# Altium footprint library EEG_PcbLib.PcbLib: 129 footprints (part 6 of 9)
Each footprint in its own frame and in the unit in brackets; x right, y up, seen from the top. Pads: shape width x height; smd on the part's side, far side on the other; paste and mask are expansions set on the pad; w line width, h text height; cw(c..) or ccw(c..) is an arc to the next point about the centre after c.
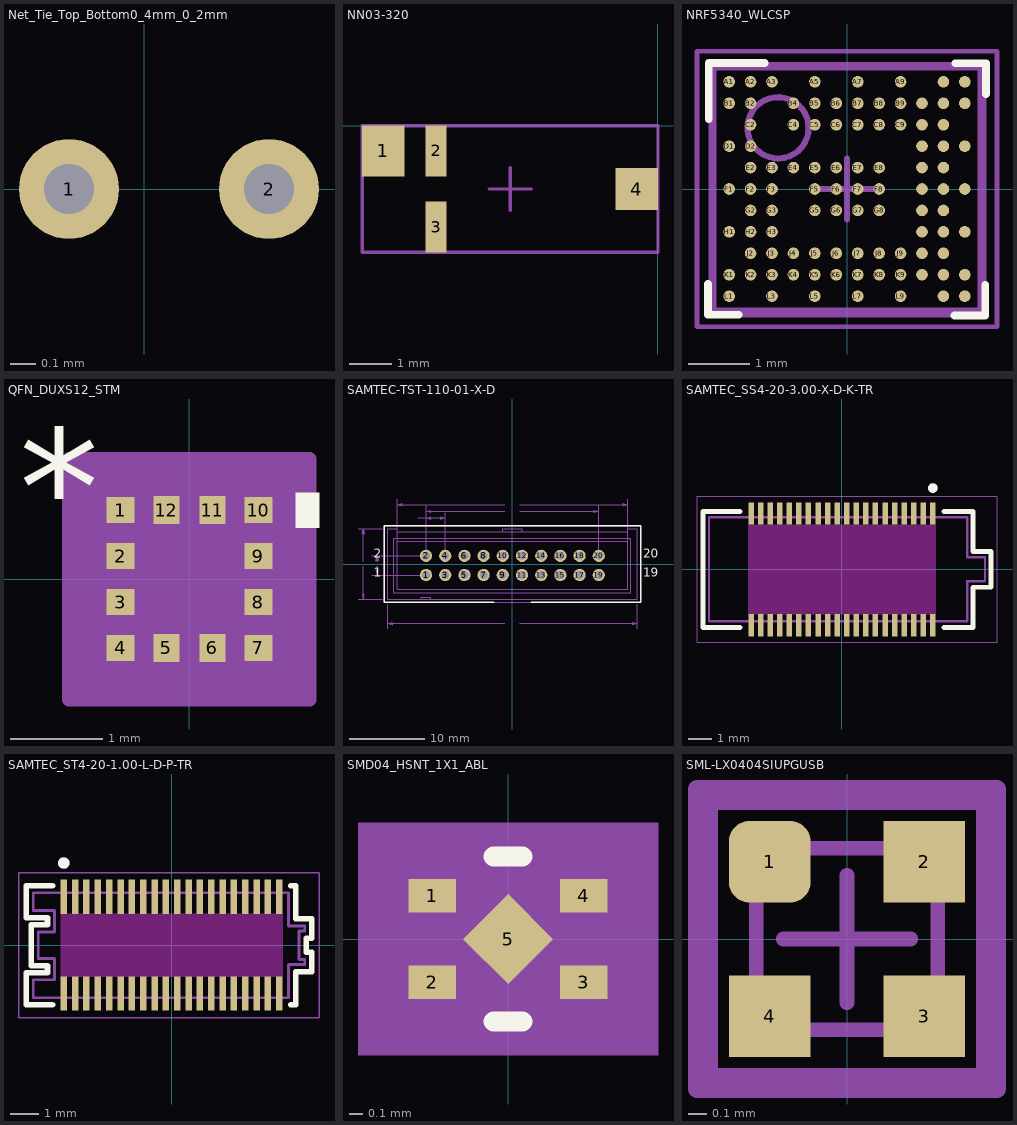
[diagram p5: the footprints below, top view; thin cyan lines are the x and y axes]

## Net_Tie_Top_Bottom0_4mm_0_2mm [mm]
pads (2):
  round 0.4 hole 0.2 mask+0.102: 1(-0.3,0) 2(0.5,0)
Multi-Layer:
  rectangle: -0.2,-0.1 0.35,0.1

## NN03-320 [mm]
pads (4):
  rect 1x1.2 smd: 1(-6.5,-0.6)
  rect 0.5x1.2 smd: 2(-5.25,-0.6) 3(-5.25,-2.4)
  rect 1x1 smd: 4(-0.5,-1.5)
Top Assembly:
  lines w0.08: -7,-3 0,-3 0,0 -7,0 -7,-3
Top Courtyard:
  lines w0.08: -7,-3 0,-3 0,0 -7,0 -7,-3
Top Component Outline:
  lines w0.08: -7,-3 0,-3 0,0 -7,0 -7,-3
Top Component Center:
  lines w0.08: -4,-1.5 -3,-1.5 ; -3.5,-2 -3.5,-1
3D body "NN03-320_alligned.STEP": height 2.01, standoff -0.01, extent -7,-3 0,0

## NRF5340_WLCSP [mm]
pads (95):
  round 0.19 smd paste+0 mask+0: A1(-1.925,1.75) A2(-1.575,1.75) A3(-1.225,1.75) A5(-0.525,1.75) A7(0.175,1.75) A9(0.875,1.75) A11(1.575,1.75) A12(1.925,1.75) B1(-1.925,1.4) B2(-1.575,1.4) B4(-0.875,1.4) B5(-0.525,1.4) B6(-0.175,1.4) B7(0.175,1.4) B8(0.525,1.4) B9(0.875,1.4) B10(1.225,1.4) B11(1.575,1.4) B12(1.925,1.4) C2(-1.575,1.05) C4(-0.875,1.05) C5(-0.525,1.05) C6(-0.175,1.05) C7(0.175,1.05) C8(0.525,1.05) C9(0.875,1.05) C10(1.225,1.05) C11(1.575,1.05) D1(-1.925,0.7) D2(-1.575,0.7) D10(1.225,0.7) D11(1.575,0.7) D12(1.925,0.7) E2(-1.575,0.35) E3(-1.225,0.35) E4(-0.875,0.35) E5(-0.525,0.35) E6(-0.175,0.35) E7(0.175,0.35) E8(0.525,0.35) E10(1.225,0.35) E11(1.575,0.35) F1(-1.925,0) F2(-1.575,0) F3(-1.225,0) F5(-0.525,0) F6(-0.175,0) F7(0.175,0) F8(0.525,0) F10(1.225,0) F11(1.575,0) F12(1.925,0) G2(-1.575,-0.35) G3(-1.225,-0.35) G5(-0.525,-0.35) G6(-0.175,-0.35) G7(0.175,-0.35) G8(0.525,-0.35) G10(1.225,-0.35) G11(1.575,-0.35) H1(-1.925,-0.7) H2(-1.575,-0.7) H3(-1.225,-0.7) H10(1.225,-0.7) H11(1.575,-0.7) H12(1.925,-0.7) J2(-1.575,-1.05) J3(-1.225,-1.05) J4(-0.875,-1.05) J5(-0.525,-1.05) J6(-0.175,-1.05) J7(0.175,-1.05) J8(0.525,-1.05) J9(0.875,-1.05) J10(1.225,-1.05) J11(1.575,-1.05) K1(-1.925,-1.4) K2(-1.575,-1.4) K3(-1.225,-1.4) K4(-0.875,-1.4) K5(-0.525,-1.4) K6(-0.175,-1.4) K7(0.175,-1.4) K8(0.525,-1.4) K9(0.875,-1.4) K10(1.225,-1.4) K11(1.575,-1.4) K12(1.925,-1.4) L1(-1.925,-1.75) L3(-1.225,-1.75) L5(-0.525,-1.75) L7(0.175,-1.75) L9(0.875,-1.75) L11(1.575,-1.75) L12(1.925,-1.75)
Top Overlay:
  lines w0.125: -2.261,1.143 -2.261,2.057 -1.346,2.057
  lines w0.127: -2.269,-1.554 -2.269,-2.054 -1.769,-2.054 ; 1.757,-2.066 2.257,-2.066 2.257,-1.566 ; 1.769,2.054 2.269,2.054 2.269,1.554
Top Assembly:
  circle w0.1: c-1.126,0.999 r0.5
  lines w0.08: -2.226,-2.057 -2.226,2.032 2.235,2.032 2.235,-2.057 -2.226,-2.057
Top Courtyard:
  lines w0.08: -2.45,-2.25 2.45,-2.25 2.45,2.25 -2.45,2.25 -2.45,-2.25
Top Component Outline:
  lines w0.1: -2.185,-1.985 -2.185,1.985 2.185,1.985 2.185,-1.985 -2.185,-1.985
Top Component Center:
  lines w0.1: -0.5,0 0.5,0 ; 0,-0.5 0,0.5
3D body "BGA132C35P12X11_437X397X50.step": height 0.5, standoff 0, extent -2.185,-1.985 2.185,1.985

## PCBComponent_1 [mm]

## PCBComponent_1 - duplicate [mm]

## PCBComponent_1 - duplicate1 [mm]

## PCBComponent_1 - duplicate2 [mm]

## PCBComponent_1 - duplicate3 [mm]

## PCBComponent_1 - duplicate4 [mm]

## QFN_DUXS12_STM [mil]
pads (12):
  rect 12x11 smd paste+0 mask+0: 1(-29.5,29.54) 2(-29.5,9.85) 3(-29.5,-9.85) 4(-29.5,-29.54) 7(29.5,-29.54) 8(29.5,-9.85) 9(29.5,9.85) 10(29.5,29.54)
  rect 11x12 smd paste+0 mask+0: 5(-9.85,-29.5) 6(9.85,-29.5) 11(9.85,29.5) 12(-9.85,29.5)
Top Overlay:
  region: 45.5,37.03 55.5,37.03 55.5,22.04 45.5,22.04
  text "*" at -73,14.38 h50
Mechanical 13:
  lines w1: -41.5,-8.5 8.5,41.5 ; -41.5,-41.5 41.5,-41.5 41.5,41.5 -41.5,41.5 -41.5,-41.5 ; -41.5,-35.03 -41.5,-24.04 -35.5,-24.04 -35.5,-35.03 -41.5,-35.03 ; -41.5,-15.35 -41.5,-4.34 -35.5,-4.34 -35.5,-15.35 -41.5,-15.35 ; -41.5,4.34 -41.5,15.35 -35.5,15.35 -35.5,4.34 -41.5,4.34 ; -41.5,24.04 -41.5,35.03 -35.5,35.03 -35.5,24.04 -41.5,24.04 ; -15.35,-41.5 -4.34,-41.5 -4.34,-35.5 -15.35,-35.5 -15.35,-41.5 ; -15.35,35.5 -4.34,35.5 -4.34,41.5 -15.35,41.5 -15.35,35.5 ; 4.34,-41.5 15.35,-41.5 15.35,-35.5 4.34,-35.5 4.34,-41.5 ; 4.34,35.5 15.35,35.5 15.35,41.5 4.34,41.5 4.34,35.5 ; 35.5,-35.03 41.5,-35.03 41.5,-24.04 35.5,-24.04 35.5,-35.03 ; 35.5,-15.35 41.5,-15.35 41.5,-4.34 35.5,-4.34 35.5,-15.35 ; 35.5,4.34 41.5,4.34 41.5,15.35 35.5,15.35 35.5,4.34 ; 35.5,24.04 41.5,24.04 41.5,35.03 35.5,35.03 35.5,24.04
  text "*" at -36,14.38 h50
Mechanical 15:
  region: -25.34,-51.5 -51.5,-51.5 -51.5,-45.03 -51.5,45.03 -51.5,51.5 -25.34,51.5 25.34,51.5 51.5,51.5 51.5,45.03 51.5,-45.03 51.5,-51.5 25.34,-51.5
  lines w6: -51.5,-51.5 -51.5,-45.03 -51.5,45.03 -51.5,51.5 -25.34,51.5 25.34,51.5 51.5,51.5 51.5,45.03 51.5,-45.03 51.5,-51.5 25.34,-51.5 -25.34,-51.5 -51.5,-51.5
3D body "QFN_DUXS12_STM.step": height 29.09, standoff 0, extent -41.5,-41.5 41.5,41.5

## SAMTEC-TST-110-01-X-D [mm]
pads (20):
  round 1.62 / inner round 1.524 / far side round 1.62 hole 1.02: 1(-11.43,-1.46) 2(-11.43,1.08) 3(-8.89,-1.46) 4(-8.89,1.08) 5(-6.35,-1.46) 6(-6.35,1.08) 7(-3.81,-1.46) 8(-3.81,1.08) 9(-1.27,-1.46) 10(-1.27,1.08) 11(1.27,-1.46) 12(1.27,1.08) 13(3.81,-1.46) 14(3.81,1.08) 15(6.35,-1.46) 16(6.35,1.08) 17(8.89,-1.46) 18(8.89,1.08) 19(11.43,-1.46) 20(11.43,1.08)
Top Overlay:
  lines w0.2: -2.5,-5.086 -16.96,-5.086 -16.96,5.086 16.96,5.086 16.96,-5.086 2.5,-5.086
  text "2" at -18.33,0.444 h1.97
  text "20" at 17.301,0.444 h1.97
  text "1" at -18.33,-2.096 h1.97
  text "19" at 17.301,-2.096 h1.97
Top Solder:
  circle w0: c11.43,1.08 r0.861
  circle w0: c11.43,-1.46 r0.861
  circle w0: c8.89,1.08 r0.861
  circle w0: c8.89,-1.46 r0.861
  circle w0: c6.35,1.08 r0.861
  circle w0: c6.35,-1.46 r0.861
  circle w0: c3.81,1.08 r0.861
  circle w0: c3.81,-1.46 r0.861
  circle w0: c1.27,1.08 r0.861
  circle w0: c1.27,-1.46 r0.861
  circle w0: c-1.27,1.08 r0.861
  circle w0: c-1.27,-1.46 r0.861
  circle w0: c-3.81,1.08 r0.861
  circle w0: c-3.81,-1.46 r0.861
  circle w0: c-6.35,1.08 r0.861
  circle w0: c-6.35,-1.46 r0.861
  circle w0: c-8.89,1.08 r0.861
  circle w0: c-8.89,-1.46 r0.861
  circle w0: c-11.43,1.08 r0.861
  circle w0: c-11.43,-1.46 r0.861
Bottom Solder:
  circle w0: c11.43,1.08 r0.861
  circle w0: c11.43,-1.46 r0.861
  circle w0: c8.89,1.08 r0.861
  circle w0: c8.89,-1.46 r0.861
  circle w0: c6.35,1.08 r0.861
  circle w0: c6.35,-1.46 r0.861
  circle w0: c3.81,1.08 r0.861
  circle w0: c3.81,-1.46 r0.861
  circle w0: c1.27,1.08 r0.861
  circle w0: c1.27,-1.46 r0.861
  circle w0: c-1.27,1.08 r0.861
  circle w0: c-1.27,-1.46 r0.861
  circle w0: c-3.81,1.08 r0.861
  circle w0: c-3.81,-1.46 r0.861
  circle w0: c-6.35,1.08 r0.861
  circle w0: c-6.35,-1.46 r0.861
  circle w0: c-8.89,1.08 r0.861
  circle w0: c-8.89,-1.46 r0.861
  circle w0: c-11.43,1.08 r0.861
  circle w0: c-11.43,-1.46 r0.861
Mechanical 3:
  drawing of 162 lines, arcs and shapes, not listed
  text "20" at 17.301,0.444 h1.97
  text "19" at 17.301,-2.096 h1.97
  text "2" at -18.33,0.444 h1.97
  text "1" at -18.33,-2.096 h1.97
Mechanical 30:
  lines w0: -20.437,-4.636 -17.211,-4.636 ; -20.437,4.636 -17.211,4.636 ; -19.736,-0.318 -19.736,-4.636 ; -19.736,0.318 -19.736,4.636 ; -18.608,-1.46 -12.131,-1.46 ; -18.608,1.08 -12.131,1.08 ; -17.907,-0.318 -17.907,-1.46 ; -17.907,0.318 -17.907,1.08 ; -16.51,-8.562 -16.51,-5.337 ; -15.24,0.701 -15.24,8.562 ; -12.548,6.096 -11.43,6.096 ; -11.43,6.797 -11.43,1.781 -11.43,7.686 ; -8.89,1.781 -8.89,6.797 ; -0.991,-7.861 -16.51,-7.861 ; -0.991,6.985 -11.43,6.985 ; -0.991,7.861 -15.24,7.861 ; 0.991,-7.861 16.51,-7.861 ; 0.991,6.985 11.43,6.985 ; 0.991,7.861 15.24,7.861 ; 11.43,1.781 11.43,7.686 ; 15.24,0.701 15.24,8.562 ; 16.51,-8.562 16.51,-5.337 ; -19.895,-4 -19.815,-4.064 -19.736,-4.636 ; -19.895,-4 -19.736,-4.128 ; -19.895,-4 -19.736,-4.636 ; -19.736,-4.636 -19.736,-4.128 ; -19.736,-4.636 -19.656,-4.064 -19.736,-4.128 ; -19.736,-4.636 -19.577,-4 -19.736,-4.128 ; -19.736,4.128 -19.736,4.636 ; -19.736,4.128 -19.815,4.064 -19.736,4.636 ; -19.736,4.128 -19.577,4 ; -19.736,4.128 -19.895,4 -19.736,4.636 ; -19.736,4.636 -19.656,4.064 -19.577,4 ; -19.736,4.636 -19.577,4 ; -18.066,-0.826 -17.986,-0.889 -17.907,-1.46 ; -18.066,-0.826 -17.907,-0.952 ; -18.066,-0.826 -17.907,-1.46 ; -17.907,-1.46 -17.907,-0.952 ; -17.907,-1.46 -17.828,-0.889 -17.907,-0.952 ; -17.907,-1.46 -17.748,-0.826 -17.907,-0.952 ; -17.907,0.572 -17.907,1.08 ; -17.907,0.572 -17.986,0.508 -17.907,1.08 ; -17.907,0.572 -17.748,0.444 ; -17.907,0.572 -18.066,0.444 -17.907,1.08 ; -17.907,1.08 -17.828,0.508 -17.748,0.444 ; -17.907,1.08 -17.748,0.444 ; -16.51,-7.861 -15.938,-7.782 -15.875,-7.703 ; -16.51,-7.861 -16.002,-7.861 ; -16.51,-7.861 -15.938,-7.941 -16.002,-7.861 ; -16.51,-7.861 -15.875,-8.02 -16.002,-7.861 ; -16.51,-7.861 -15.875,-7.703 ; -16.002,-7.861 -15.875,-7.703 ; -15.24,7.861 -14.668,7.941 -14.605,8.02 ; -15.24,7.861 -14.732,7.861 ; -15.24,7.861 -14.668,7.782 -14.732,7.861 ; -15.24,7.861 -14.605,7.703 -14.732,7.861 ; -15.24,7.861 -14.605,8.02 ; -14.732,7.861 -14.605,8.02 ; -11.43,6.096 -8.89,6.096 ; -11.43,6.096 -10.858,6.175 -10.795,6.255 ; -11.43,6.096 -10.922,6.096 ; -11.43,6.096 -10.858,6.017 -10.922,6.096 ; -11.43,6.096 -10.795,5.937 -10.922,6.096 ; -11.43,6.096 -10.795,6.255 ; -11.43,6.985 -10.858,7.064 -10.795,7.144 ; -11.43,6.985 -10.922,6.985 ; -11.43,6.985 -10.858,6.906 -10.922,6.985 ; -11.43,6.985 -10.795,6.826 -10.922,6.985 ; -11.43,6.985 -10.795,7.144 ; -10.922,6.096 -10.795,6.255 ; -10.922,6.985 -10.795,7.144 ; -9.525,5.937 -9.462,6.017 -8.89,6.096 ; -9.525,5.937 -9.398,6.096 ; -9.525,5.937 -8.89,6.096 ; -9.398,6.096 -8.89,6.096 ; -9.398,6.096 -9.462,6.175 -8.89,6.096 ; -9.398,6.096 -9.525,6.255 -8.89,6.096 ; 10.795,6.826 10.858,6.906 11.43,6.985 ; 10.795,6.826 10.922,6.985 ; 10.795,6.826 11.43,6.985 ; 10.922,6.985 11.43,6.985 ; 10.922,6.985 10.858,7.064 11.43,6.985 ; 10.922,6.985 10.795,7.144 11.43,6.985 ; 14.605,7.703 14.668,7.782 15.24,7.861 ; 14.605,7.703 14.732,7.861 ; 14.605,7.703 15.24,7.861 ; 14.732,7.861 15.24,7.861 ; 14.732,7.861 14.668,7.941 15.24,7.861 ; 14.732,7.861 14.605,8.02 15.24,7.861 ; 15.875,-8.02 15.938,-7.941 16.51,-7.861 ; 15.875,-8.02 16.002,-7.861 ; 15.875,-8.02 16.51,-7.861 ; 16.002,-7.861 16.51,-7.861 ; 16.002,-7.861 15.938,-7.782 16.51,-7.861 ; 16.002,-7.861 15.875,-7.703 16.51,-7.861
  text "30.480" at -0.8,7.734 h0.39
  text "22.860" at -0.8,6.858 h0.39
  text "33.020" at -0.8,-7.988 h0.39
  text "2.540" at -14.059,5.969 h0.39
  text "9.271" at -20.396,-0.127 h0.39
  text "2.540" at -18.567,-0.127 h0.39
Mechanical 32:
  lines w0.1: -16.96,-5.086 16.96,-5.086 16.96,5.086 -16.96,5.086 -16.96,-5.086

## SAMTEC_SS4-20-3.00-X-D-K-TR [mm]
pads (40):
  rect 0.23x0.93 smd paste-1: 01(3.8,2.335) 02(3.8,-2.335) 03(3.4,2.335) 04(3.4,-2.335) 05(3,2.335) 06(3,-2.335) 07(2.6,2.335) 08(2.6,-2.335) 09(2.2,2.335) 10(2.2,-2.335) 11(1.8,2.335) 12(1.8,-2.335) 13(1.4,2.335) 14(1.4,-2.335) 15(1,2.335) 16(1,-2.335) 17(0.6,2.335) 18(0.6,-2.335) 19(0.2,2.335) 20(0.2,-2.335) 21(-0.2,2.335) 22(-0.2,-2.335) 23(-0.6,2.335) 24(-0.6,-2.335) 25(-1,2.335) 26(-1,-2.335) 27(-1.4,2.335) 28(-1.4,-2.335) 29(-1.8,2.335) 30(-1.8,-2.335) 31(-2.2,2.335) 32(-2.2,-2.335) 33(-2.6,2.335) 34(-2.6,-2.335) 35(-3,2.335) 36(-3,-2.335) 37(-3.4,2.335) 38(-3.4,-2.335) 39(-3.8,2.335) 40(-3.8,-2.335)
Top Overlay:
  circle w0.2: c3.8,3.4 r0.1
  lines w0.2: -4.265,-2.425 -5.81,-2.425 -5.81,2.425 -4.265,2.425 ; 4.265,-2.425 5.48,-2.425 5.48,-0.75 6.23,-0.75 6.23,0.75 5.48,0.75 5.48,2.425 4.265,2.425
Top Paste:
  drawing of 40 lines, arcs and shapes, not listed
Keep-Out Layer:
  region: 3.915,-1.87 -3.915,-1.87 -3.915,1.87 3.915,1.87
Mechanical 13:
  circle w0.2: c3.8,3.4 r0.1
  lines w0.1: -5.56,-2.175 -5.56,2.175 5.23,2.175 5.23,0.5 5.98,0.5 5.98,-0.5 5.23,-0.5 5.23,-2.175 -5.56,-2.175
Mechanical 15:
  lines w0.05: -6.06,-3.05 -6.06,3.05 6.48,3.05 6.48,-3.05 -6.06,-3.05
3D body "SS4-20-3.00-L-D-K-TR.stp": height 3.39, standoff -0.11, extent -5.56,-2.5 5.98,2.5

## SAMTEC_ST4-20-1.00-L-D-P-TR [mm]
pads (40):
  rect 0.23x1.2 smd paste-2: 01(-3.8,1.71) 02(-3.8,-1.71) 03(-3.4,1.71) 04(-3.4,-1.71) 05(-3,1.71) 06(-3,-1.71) 07(-2.6,1.71) 08(-2.6,-1.71) 09(-2.2,1.71) 10(-2.2,-1.71) 11(-1.8,1.71) 12(-1.8,-1.71) 13(-1.4,1.71) 14(-1.4,-1.71) 15(-1,1.71) 16(-1,-1.71) 17(-0.6,1.71) 18(-0.6,-1.71) 19(-0.2,1.71) 20(-0.2,-1.71) 21(0.2,1.71) 22(0.2,-1.71) 23(0.6,1.71) 24(0.6,-1.71) 25(1,1.71) 26(1,-1.71) 27(1.4,1.71) 28(1.4,-1.71) 29(1.8,1.71) 30(1.8,-1.71) 31(2.2,1.71) 32(2.2,-1.71) 33(2.6,1.71) 34(2.6,-1.71) 35(3,1.71) 36(3,-1.71) 37(3.4,1.71) 38(3.4,-1.71) 39(3.8,1.71) 40(3.8,-1.71)
Top Overlay:
  circle w0.2: c-3.8,2.9 r0.1
  lines w0.2: -4.2,-2.1 -5.13,-2.1 -5.13,-0.97 -4.375,-0.97 -4.375,-0.72 -4.95,-0.72 -4.95,0.72 -4.375,0.72 -4.375,0.97 -5.13,0.97 -5.13,2.1 -4.2,2.1 ; 4.2,-2.1 4.375,-2.1 4.375,-0.93 4.95,-0.93 4.95,-0.25 4.75,-0.25 4.75,0.25 4.95,0.25 4.95,0.93 4.375,0.93 4.375,2.1 4.2,2.1
Top Paste:
  drawing of 42 lines, arcs and shapes, not listed
Keep-Out Layer:
  region: 3.915,-1.11 -3.915,-1.11 -3.915,1.11 3.915,1.11
Mechanical 13:
  circle w0.2: c-3.8,2.9 r0.1
  lines w0.1: -4.88,-1.85 4.125,-1.85 4.125,-0.68 4.7,-0.68 4.7,-0.5 4.5,-0.5 4.5,0.5 4.7,0.5 4.7,0.68 4.125,0.68 4.125,1.85 -4.88,1.85 -4.88,1.22 -4.125,1.22 -4.125,0.47 -4.7,0.47 -4.7,-0.47 -4.125,-0.47 -4.125,-1.22 -4.88,-1.22 -4.88,-1.85
Mechanical 15:
  lines w0.05: -5.38,-2.56 5.2,-2.56 5.2,2.56 -5.38,2.56 -5.38,-2.56
3D body "ST4-20-1.00-L-D-P-TR.stp": height 3.56, standoff 0.01, extent -4.875,-2 4.705,2

## Sebastian [mm]
Top Layer:
  text "Sebastian Frey" at 0.25,0.583 h1

## SMD04_HSNT_1X1_ABL [mil]
pads (5):
  rect 14x10 smd paste+0 mask+0: 1(-22.5,12.8) 2(-22.5,-12.8) 3(22.5,-12.8) 4(22.5,12.8)
  rect 19x19 smd rot 45 paste+0 mask+0: 5(0,0)
Top Overlay:
  lines w6: -4.25,-24.5 4.25,-24.5 ; -4.25,24.5 4.25,24.5
Mechanical 5:
  region: 44.5,-34.5 -44.5,-34.5 -44.5,34.5 44.5,34.5
Mechanical 13:
  lines w0: -12,19.5 ccw(c0,19.5) 12,19.5
  lines w1: -18.5,-19.5 -18.5,19.5 18.5,19.5 18.5,-19.5 -18.5,-19.5
Mechanical 15:
  region: 28.5,-29.5 -28.5,-29.5 -28.5,-27.8 -41.5,-27.8 -41.5,27.8 -28.5,27.8 -28.5,29.5 28.5,29.5 28.5,27.8 41.5,27.8 41.5,-27.8 28.5,-27.8
  lines w6: -41.5,-27.8 -41.5,27.8 -28.5,27.8 -28.5,29.5 28.5,29.5 28.5,27.8 41.5,27.8 41.5,-27.8 28.5,-27.8 28.5,-29.5 -28.5,-29.5 -28.5,-27.8 -41.5,-27.8
3D body: height 10, standoff 0, extent 0,0 10,10

## SML-LX0404SIUPGUSB [mm]
pads (4):
  rrect50% 0.45x0.45 smd: 1(-0.425,0.425)
  rect 0.45x0.45 smd: 2(0.425,0.425) 3(0.425,-0.425) 4(-0.425,-0.425)
Top Assembly:
  lines w0.1: -0.825,-0.825 0.825,-0.825 0.825,0.825 -0.825,0.825 -0.825,-0.825
Top Courtyard:
  lines w0.08: -0.75,-0.75 0.75,-0.75 0.75,0.75 -0.75,0.75 -0.75,-0.75
Top Component Outline:
  lines w0.08: -0.5,-0.5 -0.5,0.5 0.5,0.5 0.5,-0.5 -0.5,-0.5
Top Component Center:
  lines w0.08: -0.35,0 0.35,0 ; 0,-0.35 0,0.35
3D body "Diode_Lumex_SML-LX0404SIUPGUSB_eec.STEP": height 0.25, standoff 0, extent -0.5,-0.5 0.5,0.5